# EAGLE library part 645008114822 (library Wurth_Connectors_WR-WTB)
WR-WTB 3.96 mm Male Vertical Locking Header KIND PROPERTIES: Pitch:3.96mm Gender:Male MATERIAL PROPERTIES: Insulator Material :PA66 Insulator Flammability Rating:UL94 V-2 Color:White Contact Material:Copper Alloy Contact Plating:Tin Contact Type:Stamped GENERAL INFORMATION Operating Temperature:-40 up to +105 °C Compliance: RoHS Working Voltage:250 V (AC) Withstanding Voltage:1500 V (AC) Contact Resistance:20 mΩ RISO:1000 MΩ CERTIFICATION UL Approval:E323964 PACKAGING PROPERTIES Packaging:Bag <https://katalog.we-online.com/media/images/v2/o33361v209%20Family_WR-WTB_6450xx114822.jpg> Details see: https://katalog.we-online.com/en/em/WTB_3_96_MALE_LOCKING_HEADER_6450XX114822 Updated by Yingchun,Shan 2019-11-05 2019 (C) Würth Elektronik
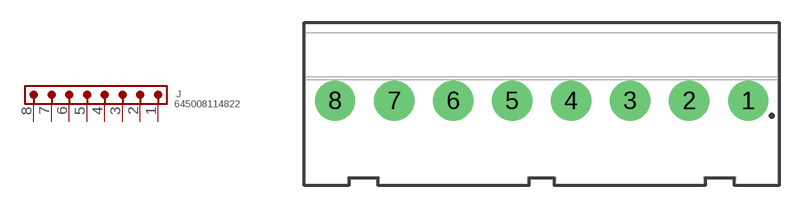
[diagram p8: symbol with the pads of 645008114822; footprint 645008114822]

Designator prefix J

## 645008114822 (CONTACT-RESISTANCE: 20mOhm; DATASHEET-URL: https://www.we-online.com/redexpert/spec/645008114822?ae; GENDER: Male; IR: 7A; L: 31.68mm; MOUNT: THT; PACKAGING: Bag; PART-NUMBER: 645008114822; PCB-CABLE-PANEL: PCB; PINS: 8; PITCH: 3.96mm; TYPE: Vertical; VALUE: 645008114822; WORKING-VOLTAGE: 250V(AC))  [645008114822]
1  1  pas
2  2  pas
3  3  pas
4  4  pas
5  5  pas
6  6  pas
7  7  pas
8  8  pas

## Footprint 645008114822 (pad centres in mm)
WR-WTB 3.96 mm Male Vertical Locking Header, 8 Pins
drill 1.8: 1 13.86,0.5; 2 9.9,0.5; 3 5.94,0.5; 4 1.98,0.5; 5 -1.98,0.5; 6 -5.94,0.5; 7 -9.9,0.5; 8 -13.86,0.5